# EAGLE library part 693061010911 (library WR-CRD)
WR-CRD SD Card Connectors Characteristics Available in two form factors: SD and MicroSD Available in three entry types: Push-Pull, Hinge and Push-Push SD 4.0 available in SD form factor for higher transfer speed Applications Single-board computers Surveillance systems Industrial data logging Consumer Electronics Drones <https://www.we-online.com/components/media/o32845v209%20Family_ConCRD_693071010811.jpg> Details see: www.we-online.com/components/products/WR-CRD_CARD_CONNECTORS_SD2 <www.we-online.com/catalog/WR-CRD_CARD_CONNECTORS_SD2/?utm_source=eagle_model&utm_medium=description_link&utm_campaign=eisos_eagle> Created by Yingchun,Shan 2019-11-22 2019 (C) Würth Elektronik
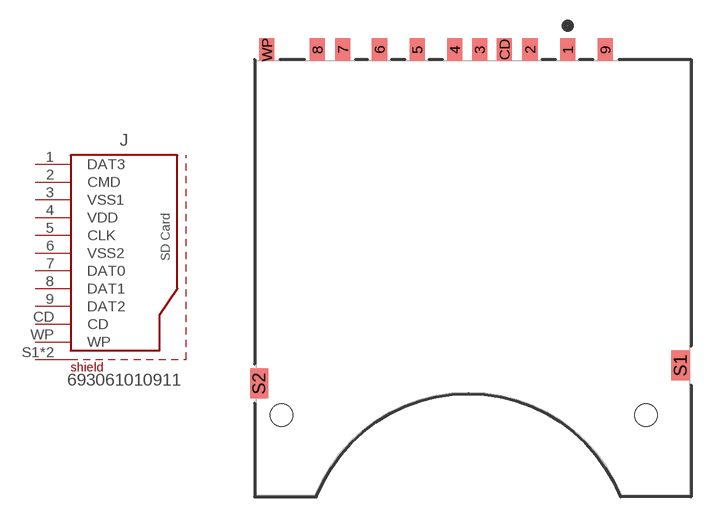
[diagram p7: symbol with the pads of 693061010911; footprint 693061010911]

Designator prefix J

## 693061010911 (DATASHEET-URL: https://www.we-online.com/redexpert/spec/693061010911?ae; DURABILITY: 10000 Mating cycles; GERDER: Socket; MOUNT: SMT; PART-NUMBER: 693061010911; PINS: 9pcs; SIZE: SD; TYPE: Push & Push; VALUE: 693061010911)  [693061010911]
1  DAT3  pas
2  CMD  pas
3  VSS1  pas
4  VDD  pas
5  CLK  pas
6  VSS2  pas
7  DAT0  pas
8  DAT1  pas
9  DAT2  pas
CD  CD  pas
S1  SHIELD  pas
S2  SHIELD  pas
WP  WP  pas

## Footprint 693061010911 (pad centres in mm)
WR-CRD SD Card Connector Push & Push with Card Detection 9 pins
smd 1 x 1.5: 1 6.3,15.2; 2 3.8,15.2; 3 0.45,15.2; 4 -1.2,15.2; 5 -3.7,15.2; 6 -6.2,15.2; 7 -8.63,15.2; 8 -10.33,15.2; 9 8.8,15.2; CD 2.1,15.2; WP -13.68,15.2
smd 1.2 x 2: S1 13.8,-5.81; S2 -14.2,-7.01
hole 1.5 at -12.7,-9.11
hole 1.5 at 11.5,-9.11